# Altium schematic symbol library BC817.Schlib: 1 symbol
Pins are listed as number, name and electrical type; pins without a type are passive.

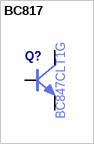
[diagram p0: symbol BC817]

## BC817
designator Q?  Manufacturer Part Number: BC847CLT1G  (hidden comment: BC817)
pins: 1 B, 2 E, 3 C